# EAGLE library part ARDUINO_UNO (library MIA_LIBRARY-2-2)
The Arduino Duemilanove ("2009") is a microcontroller board based on the ATmega168 or ATmega328. - 14 digital input/output pins (of which 6 can be used as PWM outputs) - 6 analog inputs, a 16 MHz crystal oscillator - USB connection - power jack - ISP header - reset button It contains everything needed to support the microcontroller; simply connect it to a computer with a USB cable or power it with a AC-to-DC adapter or battery to get started http://arduino.cc/en/Main/ArduinoBoardDuemilanove
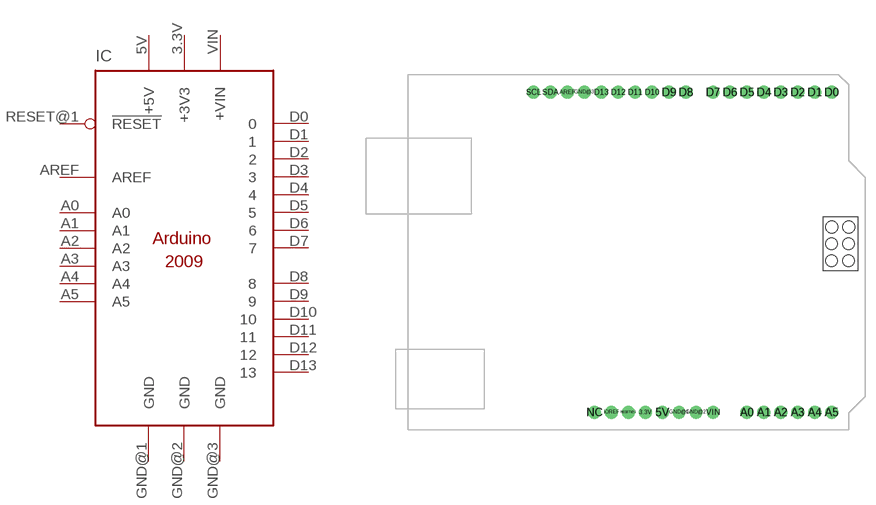
[diagram p48: symbol with the pads of ARDUINO_R3_LOCK_HOLES; footprint ARDUINO_R3_LOCK_HOLES]

Designator prefix IC

## ARDUINO_UNO  [ARDUINO_R3_LOCK_HOLES]
3.3V  +3V3  pwr
5V  +5V  pwr
A0  A0
A1  A1
A2  A2
A3  A3
A4  A4
A5  A5
AREF  AREF
D0  0
D1  1
D2  2
D3  3
D4  4
D5  5
D6  6
D7  7
D8  8
D9  9
D10  10
D11  11
D12  12
D13  13
GND@1  GND  pwr
GND@2  GND  pwr
GND@3  GND  pwr
RESET@1  !RESET
VIN  +VIN

## Footprint ARDUINO_R3_LOCK_HOLES (pad centres in mm)
drill 1.016 pad 1.93: 3.3V 35.56,2.667; 5V 38.1,2.667; A0 50.8,2.667; A1 53.34,2.667; A2 55.88,2.667; A3 58.42,2.667; A4 60.96,2.667; A5 63.5,2.667; AREF 23.876,50.673; D0 63.5,50.673; D1 60.96,50.673; D2 58.42,50.673; D3 55.88,50.673; D4 53.34,50.673; D5 50.8,50.673; D6 48.26,50.673; D7 45.72,50.673; D8 41.656,50.673; D9 39.116,50.673; D10 36.576,50.673; D11 34.036,50.673; D12 31.496,50.673; D13 28.956,50.673; GND@1 40.64,2.667; GND@2 43.18,2.667; GND@3 26.416,50.673; IOREF 30.48,2.667; NC 27.94,2.667; RESET@1 33.02,2.667; SCL 18.796,50.673; SDA 21.336,50.673; VIN 45.72,2.667